# Altium footprint library LEDM2012X100N.PcbLib: 1 footprints
Each footprint in its own frame and in the unit in brackets; x right, y up, seen from the top. Pads: shape width x height; smd on the part's side, far side on the other; paste and mask are expansions set on the pad; w line width, h text height; cw(c..) or ccw(c..) is an arc to the next point about the centre after c.
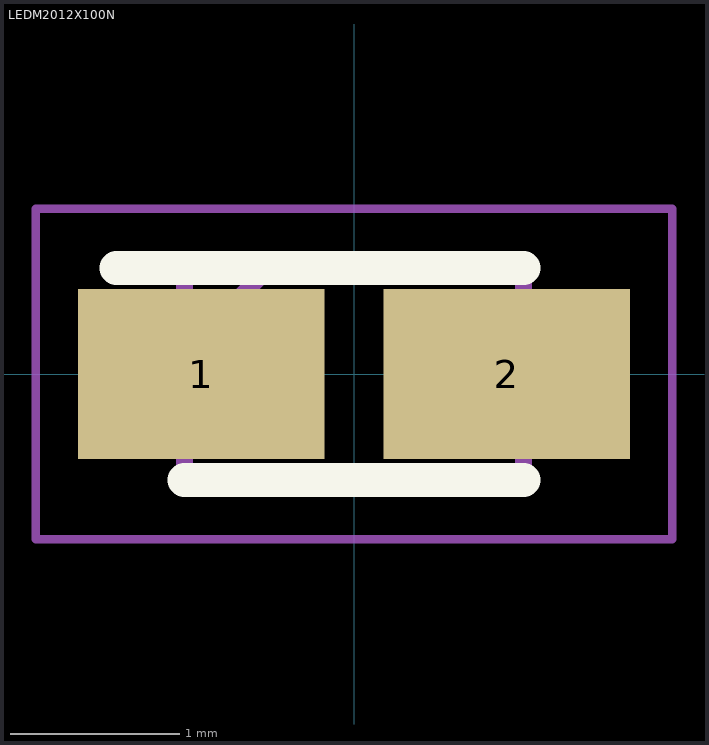
[diagram p0: the footprint, top view; thin cyan lines are the x and y axes]

## LEDM2012X100N [mm]
pads (2):
  rect 1.45x1 smd: 1(-0.9,0) 2(0.9,0)
Top Overlay:
  lines w0.2: -1.4,0.625 1,0.625 ; -1,-0.625 1,-0.625
Mechanical 15:
  lines w0.1: -1,0.125 -0.5,0.625 ; -1,-0.625 1,-0.625 1,0.625 -1,0.625 -1,-0.625
Mechanical 20:
  lines w0.05: -1.875,-0.975 1.875,-0.975 1.875,0.975 -1.875,0.975 -1.875,-0.975